# Altium schematic symbol library PMEG45T15EPDZ.SchLib: 1 symbol
Pins are listed as number, name and electrical type; pins without a type are passive.

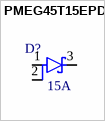
[diagram p0: symbol PMEG45T15EPDZ]

## PMEG45T15EPDZ
designator D?  Forward Current: 15A  (hidden comment: PMEG45T15EPDZ)
Schottky Diodes & Rectifiers 15A MEGA Schottky Barrier Rectifier; Manufacturer: Nexperia; Forward Voltage: 480mV; Forward Surge Current: 210A; PN: PMEG45T15EPDZ; Footprint: CFP-15-3; Package: CFP-15-3; ComponentLink1Description: Datasheet; ComponentLink1URL: https://www.mouser.ca/datasheet/2/916/PMEG45T15EPD-1599908.pdf; Supplier 1: Mouser; Supplier Part Number 1: 771-PMEG45T15EPDZ
footprint CFP-15-3
pins: 1 A, 2 A, 3 C